# Altium schematic symbol library IC_And_Boards.SchLib: 9 symbols
Pins are listed as number, name and electrical type; pins without a type are passive.

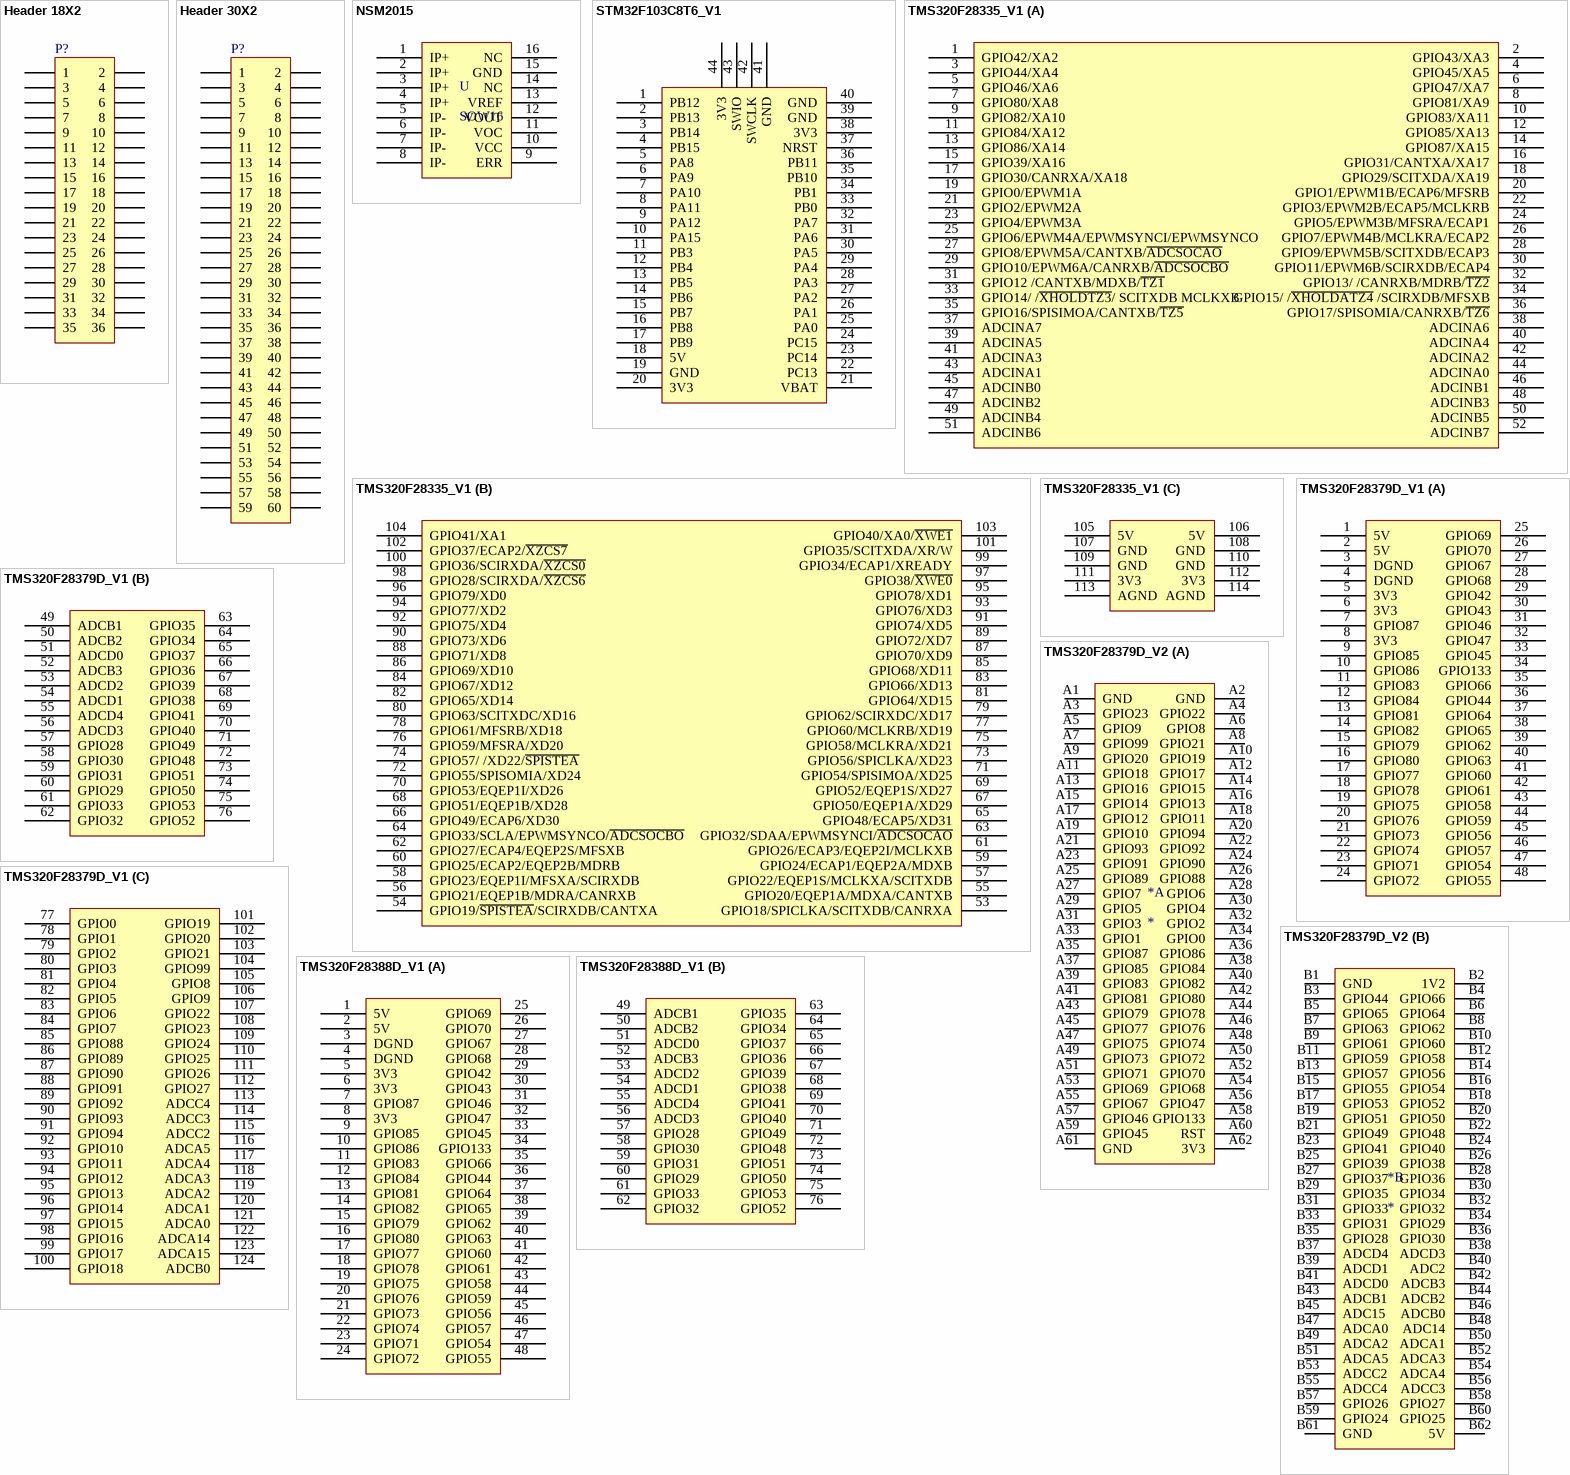
[diagram p0: symbols Header 18X2 to TMS320F28388D_V1]

## Header 18X2
designator P?
Header, 18-Pin, Dual row; LatestRevisionDate: 17-Jul-2002; LatestRevisionNote: Re-released for DXP Platform.; Publisher: Altium Limited
footprint HDR2X18 (Connector; Header; 18x2 Position)
signal-integrity model Connector
pins: 1, 2, 3, 4, 5, 6, 7, 8, 9, 10, 11, 12, 13, 14, 15, 16, 17, 18, 19, 20, 21, 22, 23, 24, 25, 26, 27, 28, 29, 30, 31, 32, 33, 34, 35, 36

## Header 30X2
designator P?
Header, 30-Pin, Dual row; LatestRevisionDate: 17-Jul-2002; LatestRevisionNote: Re-released for DXP Platform.; Publisher: Altium Limited
footprint HDR2X30 (Connector; Header; 30x2 Position)
signal-integrity model Connector
pins: 1, 2, 3, 4, 5, 6, 7, 8, 9, 10, 11, 12, 13, 14, 15, 16, 17, 18, 19, 20, 21, 22, 23, 24, 25, 26, 27, 28, 29, 30, 31, 32, 33, 34, 35, 36, 37, 38, 39, 40, 41, 42, 43, 44, 45, 46, 47, 48, 49, 50, 51, 52, 53, 54, 55, 56, 57, 58, 59, 60

## NSM2015
designator U, comment SOW16
pins: 1 IP+, 2 IP+, 3 IP+, 4 IP+, 5 IP-, 6 IP-, 7 IP-, 8 IP-, 9 ERR, 10 VCC, 11 VOC, 12 VOUT, 13 VREF, 14 NC, 15 GND, 16 NC

## STM32F103C8T6_V1
designator U?
Symbol: STM32F103C8T6; Add into BOM: yes; Device: STM32F103C8T6; Convert to PCB: yes
footprint STM32F103C8T6
pins: 1 PB12, 2 PB13, 3 PB14, 4 PB15, 5 PA8, 6 PA9, 7 PA10, 8 PA11, 9 PA12, 10 PA15, 11 PB3, 12 PB4, 13 PB5, 14 PB6, 15 PB7, 16 PB8, 17 PB9, 18 5V, 19 GND, 20 3V3, 21 VBAT, 22 PC13, 23 PC14, 24 PC15, 25 PA0, 26 PA1, 27 PA2, 28 PA3, 29 PA4, 30 PA5, 31 PA6, 32 PA7, 33 PB0, 34 PB1, 35 PB10, 36 PB11, 37 NRST, 38 3V3, 39 GND, 40 GND, 41 GND, 42 SWCLK, 43 SWIO, 44 3V3

## TMS320F28335_V1
designator U?
Symbol: TMS320F28335; Add into BOM: yes; Device: TMS320F28335; Convert to PCB: yes
footprint TMS320F28335
part A pins: 1 GPIO42/XA2, 2 GPIO43/XA3, 3 GPIO44/XA4, 4 GPIO45/XA5, 5 GPIO46/XA6, 6 GPIO47/XA7, 7 GPIO80/XA8, 8 GPIO81/XA9, 9 GPIO82/XA10, 10 GPIO83/XA11, 11 GPIO84/XA12, 12 GPIO85/XA13, 13 GPIO86/XA14, 14 GPIO87/XA15, 15 GPIO39/XA16, 16 GPIO31/CANTXA/XA17, 17 GPIO30/CANRXA/XA18, 18 GPIO29/SCITXDA/XA19, 19 GPIO0/EPWM1A, 20 GPIO1/EPWM1B/ECAP6/MFSRB, 21 GPIO2/EPWM2A, 22 GPIO3/EPWM2B/ECAP5/MCLKRB, 23 GPIO4/EPWM3A, 24 GPIO5/EPWM3B/MFSRA/ECAP1, 25 GPIO6/EPWM4A/EPWMSYNCI/EPWMSYNCO, 26 GPIO7/EPWM4B/MCLKRA/ECAP2, 27 GPIO8/EPWM5A/CANTXB/~{ADCSOCAO}, 28 GPIO9/EPWM5B/SCITXDB/ECAP3, 29 GPIO10/EPWM6A/CANRXB/~{ADCSOCBO}, 30 GPIO11/EPWM6B/SCIRXDB/ECAP4, 31 GPIO12 /CANTXB/MDXB/~{TZ1}, 32 GPIO13/ /CANRXB/MDRB/~{TZ2}, 33 GPIO14/ /~{XHOLDTZ3}/ SCITXDB MCLKXB, 34 GPIO15/ /~{XHOLDATZ4} /SCIRXDB/MFSXB, 35 GPIO16/SPISIMOA/CANTXB/~{TZ5}, 36 GPIO17/SPISOMIA/CANRXB/~{TZ6}, 37 ADCINA7, 38 ADCINA6, 39 ADCINA5, 40 ADCINA4, 41 ADCINA3, 42 ADCINA2, 43 ADCINA1, 44 ADCINA0, 45 ADCINB0, 46 ADCINB1, 47 ADCINB2, 48 ADCINB3, 49 ADCINB4, 50 ADCINB5, 51 ADCINB6, 52 ADCINB7
part B pins: 53 GPIO18/SPICLKA/SCITXDB/CANRXA, 54 GPIO19/~{SPISTEA}/SCIRXDB/CANTXA, 55 GPIO20/EQEP1A/MDXA/CANTXB, 56 GPIO21/EQEP1B/MDRA/CANRXB, 57 GPIO22/EQEP1S/MCLKXA/SCITXDB, 58 GPIO23/EQEP1I/MFSXA/SCIRXDB, 59 GPIO24/ECAP1/EQEP2A/MDXB, 60 GPIO25/ECAP2/EQEP2B/MDRB, 61 GPIO26/ECAP3/EQEP2I/MCLKXB, 62 GPIO27/ECAP4/EQEP2S/MFSXB, 63 GPIO32/SDAA/EPWMSYNCI/~{ADCSOCAO}, 64 GPIO33/SCLA/EPWMSYNCO/~{ADCSOCBO}, 65 GPIO48/ECAP5/XD31, 66 GPIO49/ECAP6/XD30, 67 GPIO50/EQEP1A/XD29, 68 GPIO51/EQEP1B/XD28, 69 GPIO52/EQEP1S/XD27, 70 GPIO53/EQEP1I/XD26, 71 GPIO54/SPISIMOA/XD25, 72 GPIO55/SPISOMIA/XD24, 73 GPIO56/SPICLKA/XD23, 74 GPIO57/ /XD22/~{SPISTEA}, 75 GPIO58/MCLKRA/XD21, 76 GPIO59/MFSRA/XD20, 77 GPIO60/MCLKRB/XD19, 78 GPIO61/MFSRB/XD18, 79 GPIO62/SCIRXDC/XD17, 80 GPIO63/SCITXDC/XD16, 81 GPIO64/XD15, 82 GPIO65/XD14, 83 GPIO66/XD13, 84 GPIO67/XD12, 85 GPIO68/XD11, 86 GPIO69/XD10, 87 GPIO70/XD9, 88 GPIO71/XD8, 89 GPIO72/XD7, 90 GPIO73/XD6, 91 GPIO74/XD5, 92 GPIO75/XD4, 93 GPIO76/XD3, 94 GPIO77/XD2, 95 GPIO78/XD1, 96 GPIO79/XD0, 97 GPIO38/~{XWE0}, 98 GPIO28/SCIRXDA/~{XZCS6}, 99 GPIO34/ECAP1/XREADY, 100 GPIO36/SCIRXDA/~{XZCS0}, 101 GPIO35/SCITXDA/XR/W, 102 GPIO37/ECAP2/~{XZCS7}, 103 GPIO40/XA0/~{XWE1}, 104 GPIO41/XA1
part C pins: 105 5V, 106 5V, 107 GND, 108 GND, 109 GND, 110 GND, 111 3V3, 112 3V3, 113 AGND, 114 AGND

## TMS320F28379D_V1
designator U?
Symbol: TMS320F28379; Add into BOM: yes; Device: TMS320F28379; Convert to PCB: yes
footprint TMS320F28379D
part A pins: 1 5V, 2 5V, 3 DGND, 4 DGND, 5 3V3, 6 3V3, 7 GPIO87, 8 3V3, 9 GPIO85, 10 GPIO86, 11 GPIO83, 12 GPIO84, 13 GPIO81, 14 GPIO82, 15 GPIO79, 16 GPIO80, 17 GPIO77, 18 GPIO78, 19 GPIO75, 20 GPIO76, 21 GPIO73, 22 GPIO74, 23 GPIO71, 24 GPIO72, 25 GPIO69, 26 GPIO70, 27 GPIO67, 28 GPIO68, 29 GPIO42, 30 GPIO43, 31 GPIO46, 32 GPIO47, 33 GPIO45, 34 GPIO133, 35 GPIO66, 36 GPIO44, 37 GPIO64, 38 GPIO65, 39 GPIO62, 40 GPIO63, 41 GPIO60, 42 GPIO61, 43 GPIO58, 44 GPIO59, 45 GPIO56, 46 GPIO57, 47 GPIO54, 48 GPIO55
part B pins: 49 ADCB1, 50 ADCB2, 51 ADCD0, 52 ADCB3, 53 ADCD2, 54 ADCD1, 55 ADCD4, 56 ADCD3, 57 GPIO28, 58 GPIO30, 59 GPIO31, 60 GPIO29, 61 GPIO33, 62 GPIO32, 63 GPIO35, 64 GPIO34, 65 GPIO37, 66 GPIO36, 67 GPIO39, 68 GPIO38, 69 GPIO41, 70 GPIO40, 71 GPIO49, 72 GPIO48, 73 GPIO51, 74 GPIO50, 75 GPIO53, 76 GPIO52
part C pins: 77 GPIO0, 78 GPIO1, 79 GPIO2, 80 GPIO3, 81 GPIO4, 82 GPIO5, 83 GPIO6, 84 GPIO7, 85 GPIO88, 86 GPIO89, 87 GPIO90, 88 GPIO91, 89 GPIO92, 90 GPIO93, 91 GPIO94, 92 GPIO10, 93 GPIO11, 94 GPIO12, 95 GPIO13, 96 GPIO14, 97 GPIO15, 98 GPIO16, 99 GPIO17, 100 GPIO18, 101 GPIO19, 102 GPIO20, 103 GPIO21, 104 GPIO99, 105 GPIO8, 106 GPIO9, 107 GPIO22, 108 GPIO23, 109 GPIO24, 110 GPIO25, 111 GPIO26, 112 GPIO27, 113 ADCC4, 114 ADCC3, 115 ADCC2, 116 ADCA5, 117 ADCA4, 118 ADCA3, 119 ADCA2, 120 ADCA1, 121 ADCA0, 122 ADCA14, 123 ADCA15, 124 ADCB0

## TMS320F28379D_V2
designator *
part A pins: A1 GND, A2 GND, A3 GPIO23, A4 GPIO22, A5 GPIO9, A6 GPIO8, A7 GPIO99, A8 GPIO21, A9 GPIO20, A10 GPIO19, A11 GPIO18, A12 GPIO17, A13 GPIO16, A14 GPIO15, A15 GPIO14, A16 GPIO13, A17 GPIO12, A18 GPIO11, A19 GPIO10, A20 GPIO94, A21 GPIO93, A22 GPIO92, A23 GPIO91, A24 GPIO90, A25 GPIO89, A26 GPIO88, A27 GPIO7, A28 GPIO6, A29 GPIO5, A30 GPIO4, A31 GPIO3, A32 GPIO2, A33 GPIO1, A34 GPIO0, A35 GPIO87, A36 GPIO86, A37 GPIO85, A38 GPIO84, A39 GPIO83, A40 GPIO82, A41 GPIO81, A42 GPIO80, A43 GPIO79, A44 GPIO78, A45 GPIO77, A46 GPIO76, A47 GPIO75, A48 GPIO74, A49 GPIO73, A50 GPIO72, A51 GPIO71, A52 GPIO70, A53 GPIO69, A54 GPIO68, A55 GPIO67, A56 GPIO47, A57 GPIO46, A58 GPIO133, A59 GPIO45, A60 RST, A61 GND, A62 3V3
part B pins: B1 GND, B2 1V2, B3 GPIO44, B4 GPIO66, B5 GPIO65, B6 GPIO64, B7 GPIO63, B8 GPIO62, B9 GPIO61, B10 GPIO60, B11 GPIO59, B12 GPIO58, B13 GPIO57, B14 GPIO56, B15 GPIO55, B16 GPIO54, B17 GPIO53, B18 GPIO52, B19 GPIO51, B20 GPIO50, B21 GPIO49, B22 GPIO48, B23 GPIO41, B24 GPIO40, B25 GPIO39, B26 GPIO38, B27 GPIO37, B28 GPIO36, B29 GPIO35, B30 GPIO34, B31 GPIO33, B32 GPIO32, B33 GPIO31, B34 GPIO29, B35 GPIO28, B36 GPIO30, B37 ADCD4, B38 ADCD3, B39 ADCD1, B40 ADC2, B41 ADCD0, B42 ADCB3, B43 ADCB1, B44 ADCB2, B45 ADC15, B46 ADCB0, B47 ADCA0, B48 ADC14, B49 ADCA2, B50 ADCA1, B51 ADCA5, B52 ADCA3, B53 ADCC2, B54 ADCA4, B55 ADCC4, B56 ADCC3, B57 GPIO26, B58 GPIO27, B59 GPIO24, B60 GPIO25, B61 GND, B62 5V

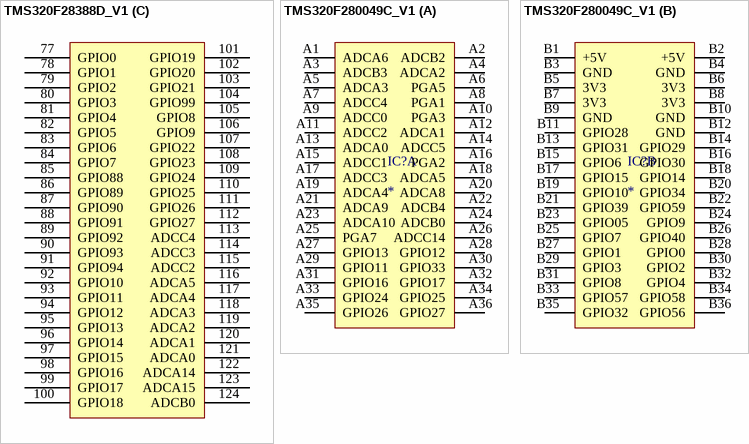
[diagram p1: symbols TMS320F28388D_V1 to TMS320F280049C_V1]

## TMS320F28388D_V1
designator U?
Symbol: TMS320F28388; Add into BOM: yes; Device: TMS320F28388; Convert to PCB: yes
footprint TMS320F28388D
part A pins: 1 5V, 2 5V, 3 DGND, 4 DGND, 5 3V3, 6 3V3, 7 GPIO87, 8 3V3, 9 GPIO85, 10 GPIO86, 11 GPIO83, 12 GPIO84, 13 GPIO81, 14 GPIO82, 15 GPIO79, 16 GPIO80, 17 GPIO77, 18 GPIO78, 19 GPIO75, 20 GPIO76, 21 GPIO73, 22 GPIO74, 23 GPIO71, 24 GPIO72, 25 GPIO69, 26 GPIO70, 27 GPIO67, 28 GPIO68, 29 GPIO42, 30 GPIO43, 31 GPIO46, 32 GPIO47, 33 GPIO45, 34 GPIO133, 35 GPIO66, 36 GPIO44, 37 GPIO64, 38 GPIO65, 39 GPIO62, 40 GPIO63, 41 GPIO60, 42 GPIO61, 43 GPIO58, 44 GPIO59, 45 GPIO56, 46 GPIO57, 47 GPIO54, 48 GPIO55
part B pins: 49 ADCB1, 50 ADCB2, 51 ADCD0, 52 ADCB3, 53 ADCD2, 54 ADCD1, 55 ADCD4, 56 ADCD3, 57 GPIO28, 58 GPIO30, 59 GPIO31, 60 GPIO29, 61 GPIO33, 62 GPIO32, 63 GPIO35, 64 GPIO34, 65 GPIO37, 66 GPIO36, 67 GPIO39, 68 GPIO38, 69 GPIO41, 70 GPIO40, 71 GPIO49, 72 GPIO48, 73 GPIO51, 74 GPIO50, 75 GPIO53, 76 GPIO52
part C pins: 77 GPIO0, 78 GPIO1, 79 GPIO2, 80 GPIO3, 81 GPIO4, 82 GPIO5, 83 GPIO6, 84 GPIO7, 85 GPIO88, 86 GPIO89, 87 GPIO90, 88 GPIO91, 89 GPIO92, 90 GPIO93, 91 GPIO94, 92 GPIO10, 93 GPIO11, 94 GPIO12, 95 GPIO13, 96 GPIO14, 97 GPIO15, 98 GPIO16, 99 GPIO17, 100 GPIO18, 101 GPIO19, 102 GPIO20, 103 GPIO21, 104 GPIO99, 105 GPIO8, 106 GPIO9, 107 GPIO22, 108 GPIO23, 109 GPIO24, 110 GPIO25, 111 GPIO26, 112 GPIO27, 113 ADCC4, 114 ADCC3, 115 ADCC2, 116 ADCA5, 117 ADCA4, 118 ADCA3, 119 ADCA2, 120 ADCA1, 121 ADCA0, 122 ADCA14, 123 ADCA15, 124 ADCB0

## TMS320F280049C_V1
designator IC?
part A pins: A1 ADCA6, A2 ADCB2, A3 ADCB3, A4 ADCA2, A5 ADCA3, A6 PGA5, A7 ADCC4, A8 PGA1, A9 ADCC0, A10 PGA3, A11 ADCC2, A12 ADCA1, A13 ADCA0, A14 ADCC5, A15 ADCC1, A16 PGA2, A17 ADCC3, A18 ADCA5, A19 ADCA4, A20 ADCA8, A21 ADCA9, A22 ADCB4, A23 ADCA10, A24 ADCB0, A25 PGA7, A26 ADCC14, A27 GPIO13, A28 GPIO12, A29 GPIO11, A30 GPIO33, A31 GPIO16, A32 GPIO17, A33 GPIO24, A34 GPIO25, A35 GPIO26, A36 GPIO27
part B pins: B1 +5V, B2 +5V, B3 GND, B4 GND, B5 3V3, B6 3V3, B7 3V3, B8 3V3, B9 GND, B10 GND, B11 GPIO28, B12 GND, B13 GPIO31, B14 GPIO29, B15 GPIO6, B16 GPIO30, B17 GPIO15, B18 GPIO14, B19 GPIO10, B20 GPIO34, B21 GPIO39, B22 GPIO59, B23 GPIO05, B24 GPIO9, B25 GPIO7, B26 GPIO40, B27 GPIO1, B28 GPIO0, B29 GPIO3, B30 GPIO2, B31 GPIO8, B32 GPIO4, B33 GPIO57, B34 GPIO58, B35 GPIO32, B36 GPIO56